# Altium footprint library 282836-2.PcbLib: 1 footprints
Each footprint in its own frame and in the unit in brackets; x right, y up, seen from the top. Pads: shape width x height; smd on the part's side, far side on the other; paste and mask are expansions set on the pad; w line width, h text height; cw(c..) or ccw(c..) is an arc to the next point about the centre after c.
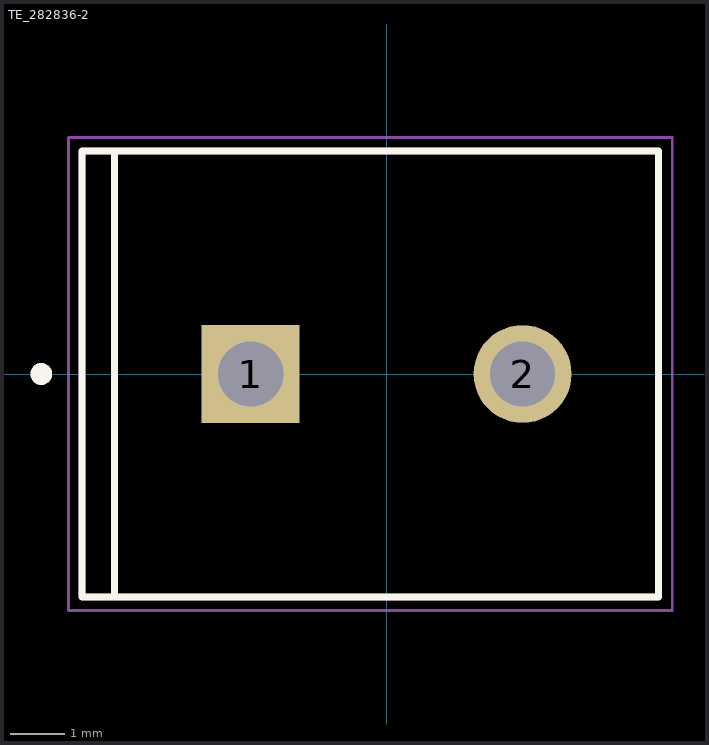
[diagram p0: the footprint, top view; thin cyan lines are the x and y axes]

## TE_282836-2 [mm]
pads (2):
  rect 1.8x1.8 hole 1.2: 1(-2.5,0)
  round 1.8 hole 1.2: 2(2.5,0)
Top Overlay:
  circle w0.2: c-6.35,0 r0.1
  lines w0.127: -5,-4.1 -5.6,-4.1 -5.6,4.1 -5,4.1 ; -5,-4.1 -5,4.1 ; -5,-4.1 5,-4.1 5,4.1 -5,4.1
Mechanical 13:
  circle w0.2: c-6.35,0 r0.1
  lines w0.127: -5,-4.1 -5.6,-4.1 -5.6,4.1 -5,4.1 ; -5,-4.1 -5,4.1 ; -5,-4.1 5,-4.1 5,4.1 -5,4.1
Mechanical 15:
  lines w0.05: -5.85,-4.35 5.25,-4.35 5.25,4.35 -5.85,4.35 -5.85,-4.35
3D body "step_temp.STEP": height 5, standoff -8.5, extent -5.6,0 5,8.2